# EAGLE library part 482009514001 (library 428427520910_Eagle_WS-ROTU_rev19b)
WS-ENTV Mechanical Incremental Encoder Switch <https://katalog.we-online.de/media/images/v2/Family_WS-ENTV_482020714001.jpg> Details see: https://katalog.we-online.de/em/datasheet/482009514001.pdf Created BY Yingchun,Shan,2018-11-12 2018(C) Wurth Elektronik
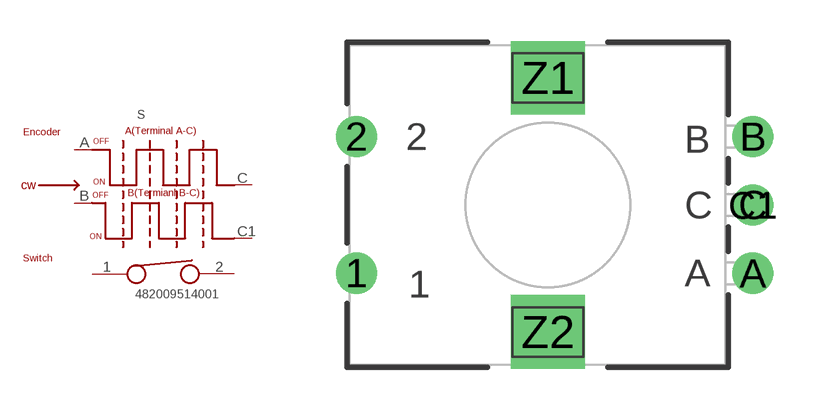
[diagram p141: symbol with the pads of WS-ENTV_4820XX514001; footprint WS-ENTV_4820XX514001]

Designator prefix S

## 482009514001  [WS-ENTV_4820XX514001]
1  1  pas
2  2  pas
A  A  pas
B  B  pas
C  C  pas
C1  C1  pas

## Footprint WS-ENTV_4820XX514001 (pad centres in mm)
drill 1: 1 -7,-2.5; 2 -7,2.5; A 7.5,-2.5; B 7.5,2.5; C 7.5,0; C1 7.5,0
drill 1.8 square: Z1 0,4.65; Z2 0,-4.65